# EAGLE library part TNY2* (library 0-svo)
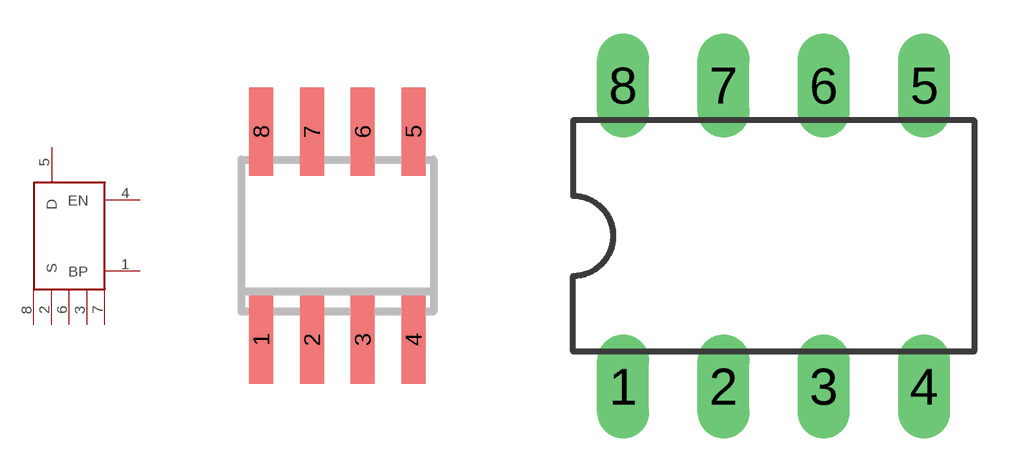
[diagram p1: symbol with the pads of SO08; footprints SO08, DIL08]

Designator prefix -

## TNY253G, TNY254G, TNY255G  [SO08]
1  BP
2  S
3  S2
4  EN
5  D
6  S3
7  S4
8  S5

## TNY253P, TNY254P, TNY255P  [DIL08]
Pads as for SO08

## Footprint SO08 (pad centres in mm)
SMALL OUTLINE INTEGRATED CIRCUIT body 3.9 mm/JEDEC MS-012AA
smd 0.6 x 2.2: 1 -1.905,-2.6; 2 -0.635,-2.6; 3 0.635,-2.6; 4 1.905,-2.6; 5 1.905,2.6; 6 0.635,2.6; 7 -0.635,2.6; 8 -1.905,2.6

## Footprint DIL08 (pad centres in mm)
Dual In Line Package
drill 0.813 long: 1 -3.81,-3.81; 2 -1.27,-3.81; 3 1.27,-3.81; 4 3.81,-3.81; 5 3.81,3.81; 6 1.27,3.81; 7 -1.27,3.81; 8 -3.81,3.81